# EAGLE library part VNH5019 (library VNH5019)
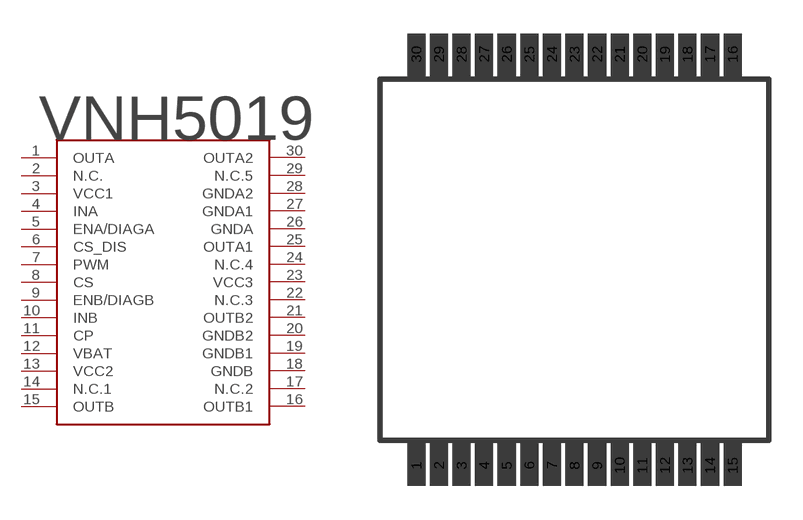
[diagram p0: symbol with the pads of VNH5019; footprint VNH5019]

Designator prefix -

## VNH5019  [VNH5019]
1  OUTA
2  N.C.
3  VCC1
4  INA
5  ENA/DIAGA
6  CS_DIS
7  PWM
8  CS
9  ENB/DIAGB
10  INB
11  CP
12  VBAT
13  VCC2
14  N.C.1
15  OUTB
16  OUTB1
17  N.C.2
18  GNDB
19  GNDB1
20  GNDB2
21  OUTB2
22  N.C.3
23  VCC3
24  N.C.4
25  OUTA1
26  GNDA
27  GNDA1
28  GNDA2
29  N.C.5
30  OUTA2

## Footprint VNH5019 (pad centres in mm)
smd 0.68 x 1.4: 1 -7,-9.1; 2 -6,-9.1; 3 -5,-9.1; 4 -4,-9.1; 5 -3,-9.1; 6 -2,-9.1; 7 -1,-9.1; 8 0,-9.1; 9 1,-9.1; 10 2,-9.1; 11 3,-9.1; 12 4,-9.1; 13 5,-9.1; 14 6,-9.1; 15 7,-9.1; 16 7,9.1; 17 6,9.1; 18 5,9.1; 19 4,9.1; 20 3,9.1; 21 2,9.1; 22 1,9.1; 23 0,9.1; 24 -1,9.1; 25 -2,9.1; 26 -3,9.1; 27 -4,9.1; 28 -5,9.1; 29 -6,9.1; 30 -7,9.1